# Altium schematic symbol library FIGARO.SchLib: 3 symbols
Pins are listed as number, name and electrical type; pins without a type are passive.

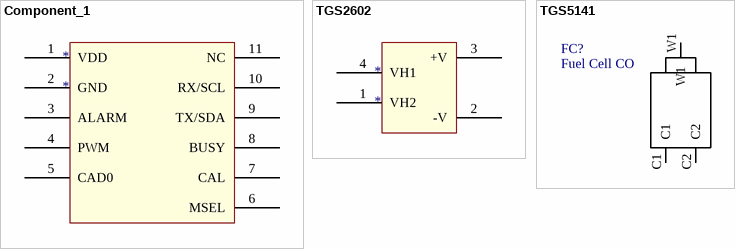
[diagram p0: symbols Component_1 to TGS5141]

## Component_1
designator *
pins: 1 VDD, 2 GND, 3 ALARM, 4 PWM, 5 CAD0, 6 MSEL, 7 CAL, 8 BUSY, 9 TX/SDA, 10 RX/SCL, 11 NC

## TGS2602
designator *
pins: 1 VH2, 2 -V, 3 +V, 4 VH1

## TGS5141
designator FC?, comment Fuel Cell CO
footprint TGS5141 (CO sensor)
pins: C1, C2, W1